# Altium footprint library Connectors.PcbLib: 58 footprints (part 1 of 4)
Each footprint in its own frame and in the unit in brackets; x right, y up, seen from the top. Pads: shape width x height; smd on the part's side, far side on the other; paste and mask are expansions set on the pad; w line width, h text height; cw(c..) or ccw(c..) is an arc to the next point about the centre after c.
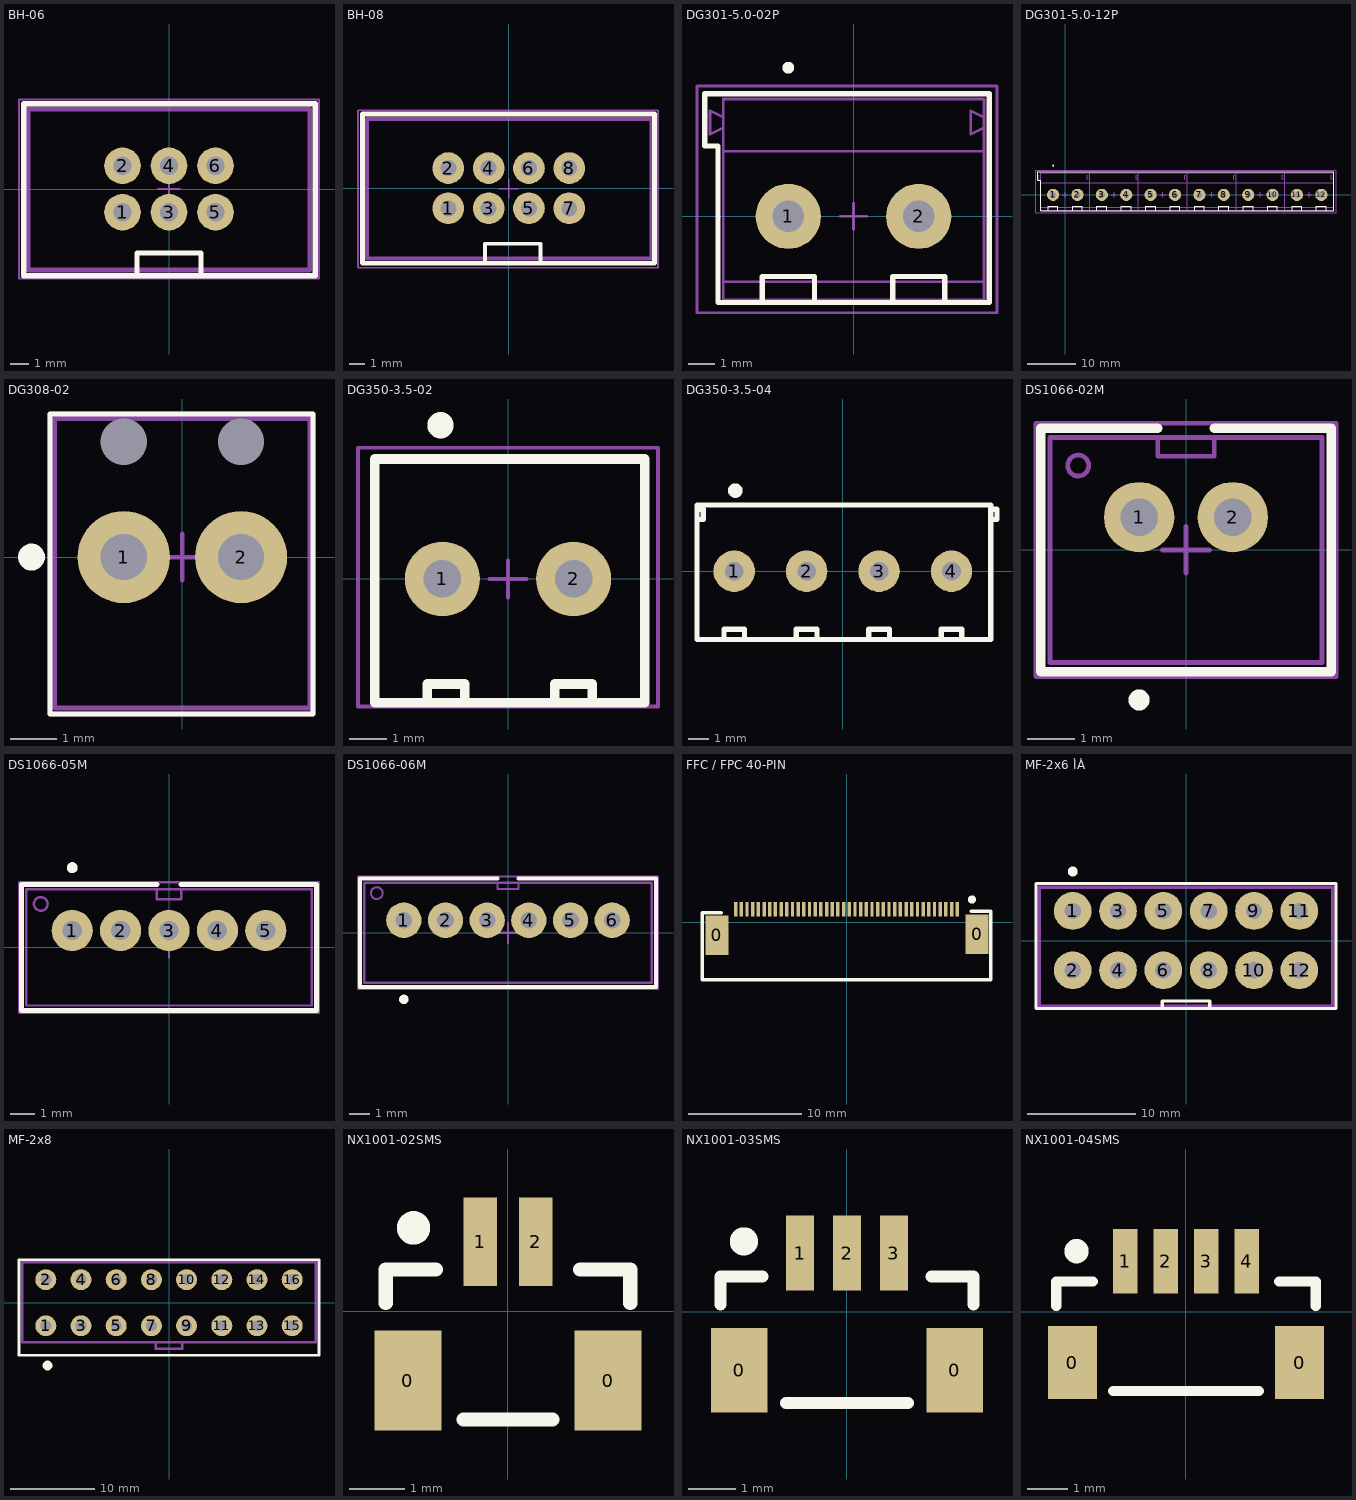
[diagram p0: the footprints below, top view; thin cyan lines are the x and y axes]

## BH-06 [mm] "PLS 2.54mm pitch"
pads (6):
  round 2 hole 1: 1(-2.54,-1.27) 2(-2.54,1.27) 3(0,-1.27) 4(0,1.27) 5(2.54,-1.27) 6(2.54,1.27)
Top Overlay:
  lines w0.25: -1.75,-4.68 -1.75,-3.5 1.75,-3.5 1.75,-4.68
  lines w0.3: -7.95,-4.73 -7.95,4.67 8,4.67 8,-4.73 -7.95,-4.73
AssemblyTop:
  lines w0.25: -7.71,-4.4 -7.71,4.4
  lines w0.254: -7.65,-4.43 7.7,-4.43 7.7,4.37 -7.65,4.37
InstallationTop:
  lines w0.1: -0.6,0 0.6,0 ; 0,-0.6 0,0.6 ; -8.2,-4.9 8.2,-4.9 8.2,4.9 -8.2,4.9 -8.2,-4.9
3D body "User Library-DS1013-6S (IDC-6MS CONNFLY).step": height 9, standoff -3.6, extent -7.71,-4.4 7.71,4.4

## BH-08 [mm] "PLS 2.54mm pitch"
pads (8):
  round 2 hole 1: 1(-3.81,-1.27) 2(-3.81,1.27) 3(-1.27,-1.27) 4(-1.27,1.27) 5(1.27,-1.27) 6(1.27,1.27) 7(3.81,-1.27) 8(3.81,1.27)
Top Overlay:
  lines w0.25: -1.5,-4.73 -1.5,-3.5 2,-3.5 2,-4.73
  lines w0.3: -9.22,-4.73 9.18,-4.73 9.18,4.67 -9.22,4.67 -9.22,-4.73
AssemblyTop:
  lines w0.254: -8.92,-4.43 8.98,-4.43 8.98,4.37 -8.92,4.37 -8.92,-4.43
InstallationTop:
  lines w0.1: -0.6,-0.03 0.6,-0.03 ; 0,-0.63 0,0.57 ; -9.5,-5 -9.5,4.9 9.4,4.9 9.4,-5 -9.5,-5
3D body "User Library-DS1013-8S (IDC-8MS CONNFLY).step": height 9, standoff -3.6, extent -8.98,-4.5 8.98,4.4

## DG301-5.0-02P [mm] "5mm pitch"
pads (2):
  round 2.5 hole 1.2: 1(-2.5,0) 2(2.5,0)
Top Overlay:
  circle w0.25: c-2.5,5.7 r0.1
  lines w0.2: -3.5,-3.3 -3.5,-2.3 -1.5,-2.3 -1.5,-3.3 ; 1.5,-3.3 1.5,-2.3 3.5,-2.3 3.5,-3.3 ; -5.7,2.7 -5.2,2.7 -5.2,-3.3 5.2,-3.3 5.2,4.5 5.2,4.7 -5.7,4.7 -5.7,4.6 -5.7,2.7
AssemblyTop:
  lines w0.1: -5,-2.5 5,-2.5 5,-2.6 ; -5,2.5 5,2.5 ; -5,3.4 -5.5,3.15 -5.5,4.05 -5,3.8 ; 5,3.4 4.5,3.15 4.5,4.05 5,3.8 ; -5,-3.2 -5,4.5 5,4.5 5,-3.2 -5,-3.2
InstallationTop:
  lines w0.1: -0.5,0 0.5,0 ; 0,-0.5 0,0.5 ; -6,-3.7 5.5,-3.7 5.5,5 -6,5 -6,-3.7
3D body "User Library-Terminal-Screw-3A-2way.step": height 10, standoff -3, extent -5.6,-3 5,4.6

## DG301-5.0-12P [mm] "5mm pitch;  6xDG301-5.0-02P"
pads (12):
  round 2.5 hole 1.2: 1(-2.5,0) 2(2.5,0) 3(7.5,0) 4(12.5,0) 5(17.5,0) 6(22.5,0) 7(27.5,0) 8(32.5,0) 9(37.5,0) 10(42.5,0) 11(47.5,0) 12(52.5,0)
Top Overlay:
  circle w0.25: c-2.5,6 r0.1
  lines w0.2: -3.5,-3.3 -3.5,-2.3 -1.5,-2.3 -1.5,-3.3 ; 1.5,-3.3 1.5,-2.3 3.5,-2.3 3.5,-3.3 ; 6.5,-3.3 6.5,-2.3 8.5,-2.3 8.5,-3.3 ; 11.5,-3.3 11.5,-2.3 13.5,-2.3 13.5,-3.3 ; 16.5,-3.3 16.5,-2.3 18.5,-2.3 18.5,-3.3 ; 21.5,-3.3 21.5,-2.3 23.5,-2.3 23.5,-3.3 ; 26.5,-3.3 26.5,-2.3 28.5,-2.3 28.5,-3.3 ; 31.5,-3.3 31.5,-2.3 33.5,-2.3 33.5,-3.3 ; 36.5,-3.3 36.5,-2.3 38.5,-2.3 38.5,-3.3 ; 41.5,-3.3 41.5,-2.3 43.5,-2.3 43.5,-3.3 ; 46.5,-3.3 46.5,-2.3 48.5,-2.3 48.5,-3.3 ; 51.5,-3.3 51.5,-2.3 53.5,-2.3 53.5,-3.3 ; -5.6,3 -5.6,4.7 -5,4.7 5,4.7 15,4.7 25,4.7 35,4.7 45,4.7 55,4.7 55,-3.3 45,-3.3 35,-3.3 25,-3.3 15,-3.3 5,-3.3 -5,-3.3 -5,2.9 -5,3 -5.6,3
AssemblyTop:
  lines w0.1: -5,-2.5 5,-2.5 ; -5,2.5 5,2.5 15,2.5 25,2.5 35,2.5 45,2.5 55,2.5 ; -5,3.4 -5.5,3.15 -5.5,4.05 -5,3.8 ; 5,-2.6 5,-2.5 ; 15,-2.6 15,-2.5 ; 15,3.4 14.5,3.15 14.5,4.05 15,3.8 ; 25,-2.6 25,-2.5 ; 25,3.4 24.5,3.15 24.5,4.05 25,3.8 ; 35,-2.6 35,-2.5 ; 35,3.4 34.5,3.15 34.5,4.05 35,3.8 ; 45,-2.6 45,-2.5 ; 45,3.4 44.5,3.15 44.5,4.05 45,3.8 ; 55,-2.6 55,-2.5 45,-2.5 ; 55,3.4 54.5,3.15 54.5,4.05 55,3.8 ; 4.5,3.15 4.5,4.05 ; 4.5,3.15 5,3.4 4.5,3.15 ; 4.5,3.15 4.5,4.05 ; 4.5,4.05 5,3.8 4.5,4.05 ; 5,-3.2 -5,-3.2 -5,4.5 5,4.5 ; 5,-3.2 5,4.5 ; 5,-3.2 15,-3.2 ; 5,-3.2 5,4.5 ; 5,-2.5 15,-2.5 ; 5,4.5 15,4.5 ; 15,-3.2 15,4.5 ; 15,-3.2 25,-3.2 ; 15,-2.5 25,-2.5 ; 15,4.5 25,4.5 ; 25,-3.2 25,4.5 ; 25,-3.2 35,-3.2 ; 25,-2.5 35,-2.5 ; 25,4.5 35,4.5 ; 35,-3.2 35,4.5 ; 35,-3.2 45,-3.2 ; 35,-2.5 45,-2.5 ; 35,4.5 45,4.5 ; 45,-3.2 45,4.5 ; 45,-3.2 55,-3.2 55,4.5 45,4.5
InstallationTop:
  lines w0.1: -0.5,0 0.5,0 ; 0,-0.5 0,0.5 ; 4,-3.7 15.5,-3.7 ; 4,5 15.5,5 ; 5.5,-3.7 -6,-3.7 -6,5 5.5,5 ; 9.5,0 10.5,0 ; 10,-0.5 10,0.5 ; 14,-3.7 25.5,-3.7 ; 14,5 25.5,5 ; 19.5,0 20.5,0 ; 20,-0.5 20,0.5 ; 24,-3.7 35.5,-3.7 ; 24,5 35.5,5 ; 29.5,0 30.5,0 ; 30,-0.5 30,0.5 ; 34,-3.7 45.5,-3.7 ; 34,5 45.5,5 ; 39.5,0 40.5,0 ; 40,-0.5 40,0.5 ; 44,-3.7 55.5,-3.7 55.5,5 44,5 ; 49.5,0 50.5,0 ; 50,-0.5 50,0.5
3D body "User Library-Terminal-Screw-3A-2way.step": height 10, standoff -3, extent -5.6,-3 5,4.6
3D body "User Library-Terminal-Screw-3A-2way.step": height 10, standoff -3, extent 4.4,-3 15,4.6
3D body "User Library-Terminal-Screw-3A-2way.step": height 10, standoff -3, extent 14.4,-3 25,4.6
3D body "User Library-Terminal-Screw-3A-2way.step": height 10, standoff -3, extent 24.4,-3 35,4.6
3D body "User Library-Terminal-Screw-3A-2way.step": height 10, standoff -3, extent 34.4,-3 45,4.6
3D body "User Library-Terminal-Screw-3A-2way.step": height 10, standoff -3, extent 44.4,-3 55,4.6

## DG308-02 [mm] "2.54 mm"
height 8.5
pads (4):
  round 0 hole 1: 0(-1.27,2.5) 0(1.27,2.5)
  round 2 hole 1: 1(-1.27,0) 2(1.27,0)
Top Overlay:
  circle w0.3: c-3.27,0 r0.141
  lines w0.1: -2.87,-3.4 -2.87,3.1 2.83,3.1 2.83,-3.4 -2.87,-3.4
AssemblyTop:
  lines w0.1: -2.765,-3.27 2.765,-3.27 2.765,3 -2.765,3 -2.765,-3.27
InstallationTop:
  lines w0.1: -0.5,0 0.5,0 ; 0,-0.5 0,0.5 ; -2.87,-3.4 -2.87,3.1 2.83,3.1 2.83,-3.4 -2.87,-3.4
3D body "User Library-bornier 2 voies.step": height 8.5, standoff -3.5, extent -2.77,-3.152 2.77,3.048

## DG350-3.5-02 [mm]
pads (2):
  round 2 hole 1: 1(-1.75,0) 2(1.75,0)
Top Overlay:
  circle w0.5: c-1.8,4.1 r0.1
  lines w0.254: -2.15,-3.3 -2.15,-2.8 -1.15,-2.8 -1.15,-3.3 ; 1.25,-3.3 1.25,-2.8 2.25,-2.8 2.25,-3.3 ; -3.55,-3.3 -3.55,3.2 3.65,3.2 3.65,-3.3 -3.55,-3.3
InstallationTop:
  lines w0.1: -0.5,0 0.5,0 ; 0,-0.5 0,0.5 ; -4,-3.4 4,-3.4 4,3.5 -4,3.5 -4,-3.4
3D body "User Library-DG350-3,5-02P.STEP": height 8.4, standoff -3.4, extent -4,-3.4 4,3.4

## DG350-3.5-04 [mm]
pads (4):
  round 2 hole 0.9: 1(-5.25,0) 2(-1.75,0) 3(1.75,0) 4(5.25,0)
Top Overlay:
  circle w0.5: c-5.2,3.9 r0.1
  lines w0.254: -7.05,2.5 -6.75,2.5 -6.75,3 -7.05,3 ; -5.75,-3.3 -5.75,-2.8 -4.75,-2.8 -4.75,-3.3 ; -2.25,-3.3 -2.25,-2.8 -1.25,-2.8 -1.25,-3.3 ; -0.05,-3.3 7.15,-3.3 7.15,3.2 -7.05,3.2 -7.05,-3.3 0.15,-3.3 ; 1.25,-3.3 1.25,-2.8 2.25,-2.8 2.25,-3.3 ; 4.75,-3.3 4.75,-2.8 5.75,-2.8 5.75,-3.3 ; 7.15,2.5 7.45,2.5 7.45,3 7.15,3
3D body "User Library-DG350-3,5-02P.STEP": height 3, standoff -8.8, extent -0.5,-3.4 7.5,3.4
3D body "User Library-DG350-3,5-02P.STEP": height 8.4, standoff -3.4, extent -7.5,-3.4 0.5,3.4

## DS1066-02M [mm] "step 2mm"
pads (2):
  round 1.5 hole 0.8 mask+0.15: 1(-1,0.7) 2(1,0.7)
Top Overlay:
  circle w0.25: c-1,-3.2 r0.1
  lines w0.2: -0.6,2.6 -3.1,2.6 -3.1,-2.6 3.1,-2.6 3.1,2.5 3.1,2.6 0.6,2.6
AssemblyTop:
  circle w0.1: c-2.3,1.8 r0.224
  lines w0.1: -0.7,2.4 -0.6,2.4 -0.6,2 0.6,2 0.6,2.4 ; -2.9,-2.4 -2.9,2.4 2.9,2.4 2.9,-2.4 -2.9,-2.4
InstallationTop:
  lines w0.1: -0.5,0 0.5,0 ; 0,-0.5 0,0.5 ; -3.2,-2.7 -3.2,2.7 3.2,2.7 3.2,-2.7 -3.2,-2.7
3D body "User Library-mw-2m-1.STEP": height 6, standoff -3.2, extent -3,-2.2 3,2.3

## DS1066-05M [mm] "step 2mm"
pads (5):
  round 1.7 hole 0.8: 1(-4,0.7) 2(-2,0.7) 3(0,0.7) 4(2,0.7) 5(4,0.7)
Top Overlay:
  circle w0.25: c-4,3.3 r0.1
  lines w0.2: -6,2.6 -6.1,2.6 ; -0.5,2.6 -6.1,2.6 ; 0.5,2.6 6.1,2.6 6.1,-2.6 -6.1,-2.6 -6.1,2.6
AssemblyTop:
  circle w0.1: c-5.3,1.8 r0.283
  lines w0.1: -0.5,2.4 -0.5,2 0.5,2 0.5,2.4 ; -5.9,-2.4 -5.9,2.4 5.9,2.4 5.9,-2.4 -5.9,-2.4
InstallationTop:
  lines w0.1: -0.4,0 0.4,0 ; 0,-0.4 0,0.4 ; -6.2,-2.7 6.2,-2.7 6.2,2.7 -6.2,2.7 -6.2,-2.7
3D body "User_Library-mw-5m_214.step": height 6, standoff -3.2, extent -6,-2.1 6,2.4

## DS1066-06M [mm] "step 2mm"
pads (6):
  round 1.7 hole 0.8: 1(-5,0.6) 2(-3,0.6) 3(-1,0.6) 4(1,0.6) 5(3,0.6) 6(5,0.6)
Top Overlay:
  circle w0.25: c-5,-3.2 r0.1
  lines w0.2: -0.5,2.6 -7.1,2.6 -7.1,-2.6 7.1,-2.6 7.1,-2.2 7.1,2.5 7.1,2.6 0.5,2.6
AssemblyTop:
  circle w0.1: c-6.3,1.9 r0.283
  lines w0.1: -0.5,2.4 -0.5,2.1 0.5,2.1 0.5,2.4 ; -6.9,-2.4 6.9,-2.4 6.9,2.1 6.9,2.4 -6.9,2.4 -6.9,-2.4
InstallationTop:
  lines w0.1: -0.5,0 0.5,0 ; 0,-0.5 0,0.5 ; -7.2,-2.7 7.2,-2.7 7.2,2.7 -7.2,2.7 -7.2,-2.7
3D body "User Library-mw-6m.STEP": height 6, standoff -3.2, extent -7,-2.1 7,2.4

## FFC / FPC 40-PIN [mm]
pads (42):
  rect 2x3.5 smd: 0(-11.45,-1.15) 0(11.45,-1.05)
  rect 0.3x1.3 smd: 1(9.7,1.15) 2(9.2,1.15) 3(8.7,1.15) 4(8.2,1.15) 5(7.7,1.15) 6(7.2,1.15) 7(6.7,1.15) 8(6.2,1.15) 9(5.7,1.15) 10(5.2,1.15) 11(4.7,1.15) 12(4.2,1.15) 13(3.7,1.15) 14(3.2,1.15) 15(2.7,1.15) 16(2.2,1.15) 17(1.7,1.15) 18(1.2,1.15) 19(0.7,1.15) 20(0.2,1.15) 21(-0.3,1.15) 22(-0.8,1.15) 23(-1.3,1.15) 24(-1.8,1.15) 25(-2.3,1.15) 26(-2.8,1.15) 27(-3.3,1.15) 28(-3.8,1.15) 29(-4.3,1.15) 30(-4.8,1.15) 31(-5.3,1.15) 32(-5.8,1.15) 33(-6.3,1.15) 34(-6.8,1.15) 35(-7.3,1.15) 36(-7.8,1.15) 37(-8.3,1.15) 38(-8.8,1.15) 39(-9.3,1.15) 40(-9.8,1.15)
Top Overlay:
  circle w0.5: c11,2 r0.1
  lines w0.3: -11.05,0.85 -12.75,0.85 -12.75,-5.05 12.65,-5.05 12.65,0.95 10.95,0.95
3D body "62684401100alf.stp": height 2.01, standoff -0.05, extent -12.8,-4.35 12.7,1.29

## MF-2x6 ÌÀ [mm]
pads (12):
  round 3.5 hole 1.5: 1(-10.5,2.75) 2(-10.5,-2.75) 3(-6.3,2.75) 4(-6.3,-2.75) 5(-2.1,2.75) 6(-2.1,-2.75) 7(2.1,2.75) 8(2.1,-2.75) 9(6.3,2.75) 10(6.3,-2.75) 11(10.5,2.75) 12(10.5,-2.75)
Top Overlay:
  circle w0.5: c-10.5,6.4 r0.2
  lines w0.3: -2.1,-6.3 -2.2,-6.3 -2.2,-5.6 2.2,-5.6 2.2,-6.3 ; -13.9,-6.3 -13.9,5.3 13.9,5.3 13.9,-6.3 -13.9,-6.3
InstallationTop:
  lines w0.3: -13.6,-6.05 -13.6,4.95 13.6,4.95 13.6,-6.05 -13.6,-6.05
3D body "39-28-1123.stp": height 12.8, standoff -3.5, extent -13.6,-6.05 13.6,4.95

## MF-2x8 [mm]
pads (16):
  round 2.5 hole 1.3: 1(-14.7,-2.75) 2(-14.7,2.75) 3(-10.5,-2.75) 4(-10.5,2.75) 5(-6.3,-2.75) 6(-6.3,2.75) 7(-2.1,-2.75) 8(-2.1,2.75) 9(2.1,-2.75) 10(2.1,2.75) 11(6.3,-2.75) 12(6.3,2.75) 13(10.5,-2.75) 14(10.5,2.75) 15(14.7,-2.75) 16(14.7,2.75)
Top Overlay:
  circle w0.57: c-14.5,-7.5 r0.3
  lines w0.3: -17.9,-6.3 17.9,-6.3 17.9,5.1 -17.9,5.1 -17.9,-6.3
AssemblyTop:
  lines w0.3: -1.6,-4.75 -1.6,-5.5 0,-5.5 1.6,-5.5 1.6,-4.75 ; -17.5,-4.75 17.5,-4.75 17.5,4.85 17.4,4.85 -17.5,4.85 -17.5,-4.75
3D body "39-28-1163.stp": height 12.8, standoff -3.5, extent -17.8,-6.15 17.8,4.85

## NX1001-02SMS [mm]
pads (4):
  rect 1.2x1.8 smd: 0(-1.8,-1.25) 0(1.8,-1.25)
  rect 0.6x1.6 smd: 1(-0.5,1.25) 2(0.5,1.25)
Top Overlay:
  circle w0.5: c-1.7,1.5 r0.05
  lines w0.254: -2.2,0.15 -2.2,0.75 -1.3,0.75 ; -0.8,-1.95 0.8,-1.95 ; 1.3,0.75 2.2,0.75 2.2,0.15

## NX1001-03SMS [mm]
pads (5):
  rect 1.2x1.8 smd: 0(-2.3,-1.25) 0(2.3,-1.25)
  rect 0.6x1.6 smd: 1(-1,1.25) 2(0,1.25) 3(1,1.25)
Top Overlay:
  circle w0.5: c-2.2,1.5 r0.05
  lines w0.254: -2.7,0.15 -2.7,0.75 -1.8,0.75 ; -1.3,-1.95 1.3,-1.95 ; 1.8,0.75 2.7,0.75 2.7,0.15

## NX1001-04SMS [mm]
pads (6):
  rect 1.2x1.8 smd: 0(-2.8,-1.25) 0(2.8,-1.25)
  rect 0.6x1.6 smd: 1(-1.5,1.25) 2(-0.5,1.25) 3(0.5,1.25) 4(1.5,1.25)
Top Overlay:
  circle w0.5: c-2.7,1.5 r0.05
  lines w0.254: -3.2,0.15 -3.2,0.75 -2.3,0.75 ; -1.8,-1.95 1.8,-1.95 ; 2.3,0.75 3.2,0.75 3.2,0.15